# Altium integrated library Arduino_7Segments.IntLib: 10 symbols
Pins are listed as number, name and electrical type; pins without a type are passive.

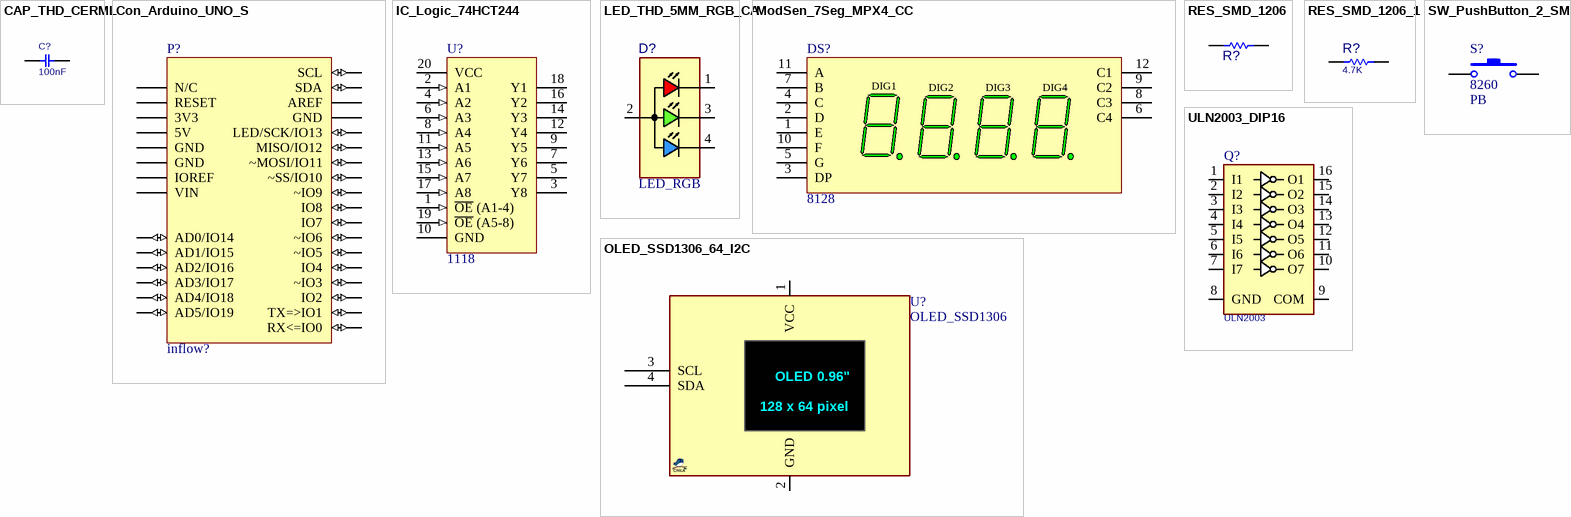
[diagram p0: symbols CAP_THD_CERML to ULN2003_DIP16]

## CAP_THD_CERML
designator C?, comment 100nF
CAP, THD, CER MULTI LAYER,; PARAM: 50V; DESC: CAP, CER MULTI LAYER,; MANF_P#: MANF_PART#; PRICE: 100= 1$; MANF: MANF; PARAM2: PARAM2; ASSEMBLY: ASSEMBLY; VALUE: 100nF
footprint C_CER_D3 (CAP, CER MULTILAYER, D:3.5mm, pitch: 2.54mm)
footprint C_CER_D5 (CAP, CER, D:5mm, pitch: 2.5mm)
footprint C_CER_D6A (CAP, CER MULTILAYER, 5.8X1.7mm, pitch: 2.5mm)
footprint C_CER_D6B (CAP, CER MULTILAYER, 6X2mm, pitch: 5mm)
footprint C_CER_D7A (CAP, CER MULTILAYER, 7.0X1.7mm, pitch: 5.0mm)
footprint C_CER_D7B (CAP, CER MULTILAYER, 7.0X2.6mm, pitch: 5.0mm)
footprint C_CER_D10 (CAP, CER MULTILAYER, 12X4mm, pitch: 7.5mm)
footprint C_CER_D12 (CAP, CER MULTILAYER, 12X4mm, pitch: 7.5mm)
footprint C_CER_M4 (CAP, CER MULTILAYER, 4.2X2.0mm, pitch: 5.0mm, TDK FK24)
footprint C_CER_M5 (CAP, CER MULTILAYER, 5.0X2.5mm, pitch: 2.5mm, RAD0.1)
pins: 1, 2

## Con_Arduino_UNO_S
designator P?, comment Inflow: inflow?  (hidden comment: UNO)  (no BOM)
Arduino uno slave; Rating: Rating?; Value: UNO; Package: Package?; Type: Type?
footprint Arduino_uno_S_1
footprint Arduino_uno_S_2
footprint Arduino_uno_S_3
footprint Arduino_uno_S_4
pins: 1 N/C "Not connected", 2 IOREF (power), 3 RESET "PC5/RESET/PCINT14", 4 3V3 (power) "3.3'V", 5 5V (power) "5'V", 6 GND (power), 7 GND (power), 8 VIN (power), 9 AD0/IO14 (io) "PA0/ADC0/PCINT8", 10 AD1/IO15 (io) "PA1/ADC1/PCINT9", 11 AD2/IO16 (io) "PA2/ADC2/PCINT10", 12 AD3/IO17 (io) "PA3/ADC3/PCINT11", 13 AD4/IO18 (io) "PA4/ADC4/SDA/PCINT12", 14 AD5/IO19 (io) "PA5/ADC5/SCL/PCINT13", 15 RX<=IO0 (io) "PD0/RXD/PCINT16", 16 TX=>IO1 (io) "PD1/TXD/PCINT17", 17 IO2 (io) "PD2/INT0/PCINT18", 18 ~IO3 (io) "PD3/INT1/PWM2B/PCINT19", 19 IO4 (io) "PD4/T0/XCK/PCINT20", 20 ~IO5 (io) "PD5/T1/PWM0B/PCINT21", 21 ~IO6 (io) "PD6/AIN0/PWM0A/PCINT22", 22 IO7 (io) "PD7/AIN1/PCINT23", 23 IO8 (io) "PB0/CLK0/ICP1/PCINT0", 24 ~IO9 (io) "PB1/PWM1A/PCINT1", 25 ~SS/IO10 (io) "PB2/PWM1B/SS/PCINT2", 26 ~MOSI/IO11 (io) "PB3/PWM2A/MOSI/PCINT3", 27 MISO/IO12 (io) "PB4/MISO/PCINT4", 28 LED/SCK/IO13 (io) "PB5/SCK/LED/PCINT5", 29 GND (power), 30 AREF, 31 SDA (io) "PA4/ADC4/SDA/PCINT12", 32 SCL (io) "PA5/ADC5/SCL/PCINT13"

## IC_Logic_74HCT244
designator U?, comment Inflow: 1118  (hidden comment: 74HCT244)
Octal Bus Buffer with 3 State Outputs (Non Inverted); Rating: 8b; Type: 3-State Non-Inverting; Package: Dip; Value: 74HCT244
footprint SO20_N (SOIC, 20-Leads, Body 12.8x7.5mm, Pitch 1.27mm, IPC Medium Density)
footprint SO20_L (SOIC, 20-Leads, Body 12.8x7.5mm, Pitch 1.27mm, IPC High Density)
footprint SO20_M (SOIC, 20-Leads, Body 12.8x7.5mm, Pitch 1.27mm, IPC Low Density)
footprint PDIP20 (20-Pin Plastic DIP (DD20) NARROW_(300mil width) - 100mil pitch)
pins: 1 ~{OE} (A1-4) (in), 2 A1 (in), 3 Y8 (hiz), 4 A2 (in), 5 Y7 (hiz), 6 A3 (in), 7 Y6 (hiz), 8 A4 (in), 9 Y5 (hiz), 10 GND (power), 11 A5 (in), 12 Y4 (hiz), 13 A6 (in), 14 Y3 (hiz), 15 A7 (in), 16 Y2 (hiz), 17 A8 (in), 18 Y1 (hiz), 19 ~{OE} (A5-8) (in), 20 VCC (power)

## LED_THD_5MM_RGB_CA
designator D?, comment LED_RGB
LED, THD, 5MM, RGB COMMON CATHODE; MANF_P#: YSL-R596CR3G4B5C-C10; MANF: CHINA YOUNG; DESC: DESCRIPTION; ASSEMBLY: ASSEMBLY; PRICE: PRICE; VALUE: LED_RGB
footprint LED5RGB (LED THD 5MM RGB)
pins: 1 RED, 2 C, 3 GRN, 4 BLU

## ModSen_7Seg_MPX4_CC
designator DS?, comment Inflow: 8128  (hidden comment: 4Digit, Red)
7Segment-MPX4-CC; Rating: Rating?; Type: Type?; Value: 4Digit, Red; Package: Package?
footprint 7Seg-MPX4-30.2x14.1mm (Display, 12-Leads, Body 30/2x14/1mm)
footprint 7Seg-MPX4-50.5x19.1mm (Display, 12-Leads, Body 50.5x19/1mm)
pins: 1 E, 2 D, 3 DP, 4 C, 5 G, 6 C4, 7 B, 8 C3, 9 C2, 10 F, 11 A, 12 C1
text: DIG1; DIG2; DIG3; DIG4

## OLED_SSD1306_64_I2C
designator U?, comment OLED_SSD1306
OLED, SSD1306, 0.96", 128X64, BREAKOUT I2C; MANF_P#: OLED_SSD1306_I2C; PARAM2: 3.3/5VCC, -20~70oC; PARAM: 2 Colors, 0.96", 128X64; MANF: -; VALUE: OLED_SSD1306
footprint OLED_SSD1306_64_I2C (OLED SS1306 Breakout, 128X64, I2C)
pins: 1 VCC, 2 GND, 3 SCL, 4 SDA
text: OLED 0.96"; 128 x 64 pixel

## RES_SMD_1206
designator R?, comment 470  (value not drawn)
RESISTOR, SMD; PARAM: -W; DESC: DESCRIPTION; DIST#: MOUSER; PARAM2: 1%; MANF_P#: -; MANF: -; ASSEMBLY: ASSEMBLY; PRICE: 100= 0.5$; VALUE: 470
footprint R1206 (CHIP RESISTOR 1/4 WATT, Body 3.2x1.6mm,1206, 3216)
pins: 1, 2

## RES_SMD_1206_1
designator R?, comment 4.7K
RESISTOR, SMD; PARAM: -W; DESC: DESCRIPTION; DIST#: MOUSER; PARAM2: 1%; MANF_P#: -; MANF: -; ASSEMBLY: ASSEMBLY; PRICE: 100= 0.5$; VALUE: 4.7K
footprint R1206 (CHIP RESISTOR 1/4 WATT, Body 3.2x1.6mm,1206, 3216)
pins: 1, 2

## SW_PushButton_2_SMD
designator S?, comment Inflow: 8260  (hidden comment: PB)
SMT Tactile ‎Switch; Rating: 2b; Type: Vertical; Package: SMD; Value: PB
footprint SW_PB_SMD_2PIN_SPST_6X3X5_R (SWITCH, PUSHBUTTON, SMD, SPST, RIGHT)
footprint SW_PB_SMD_2PIN_SPST_6X3X5 (SWITCH, PUSHBUTTON, SMD, SPST, 6X3.5mm, SKQMBBE010, 50000 Cycles, 1.57N Force)
footprint SW_PB_SMD_2PIN_SPST_6X3X2 (SWITCH, PUSHBUTTON, SMD, SPST, 6X3.5X2.5mm, RS-282G05A3, SKQYPA, 50000 Cycles)
footprint SW_PB_SMD_2PIN_SPST_3X2X1 (SWITCH, PUSHBUTTON, SMD, SPST, 3X2.5mm)
footprint SW_PB_SMD_2PIN_SPST_PTS820 (SMT Tactile Switch PTS 820 Series)
pins: 1, 2

## ULN2003_DIP16
designator Q?, comment ULN2003
Darlington, 7-CH, 50V, 0.5A; MANF_P#: ULN2003A; MANF: DIODES; PARAM: 7-CH, 50V, 0.5A; PARAM2: -; VALUE: ULN2003
footprint DIP_16 (DIP, pitch 2.54mm, 300mil Width)
pins: 1 I1, 2 I2, 3 I3, 4 I4, 5 I5, 6 I6, 7 I7, 8 GND, 9 COM, 10 O7, 11 O6, 12 O5, 13 O4, 14 O3, 15 O2, 16 O1